# Altium footprint library R_4X1206.PcbLib: 1 footprints
Each footprint in its own frame and in the unit in brackets; x right, y up, seen from the top. Pads: shape width x height; smd on the part's side, far side on the other; paste and mask are expansions set on the pad; w line width, h text height; cw(c..) or ccw(c..) is an arc to the next point about the centre after c.
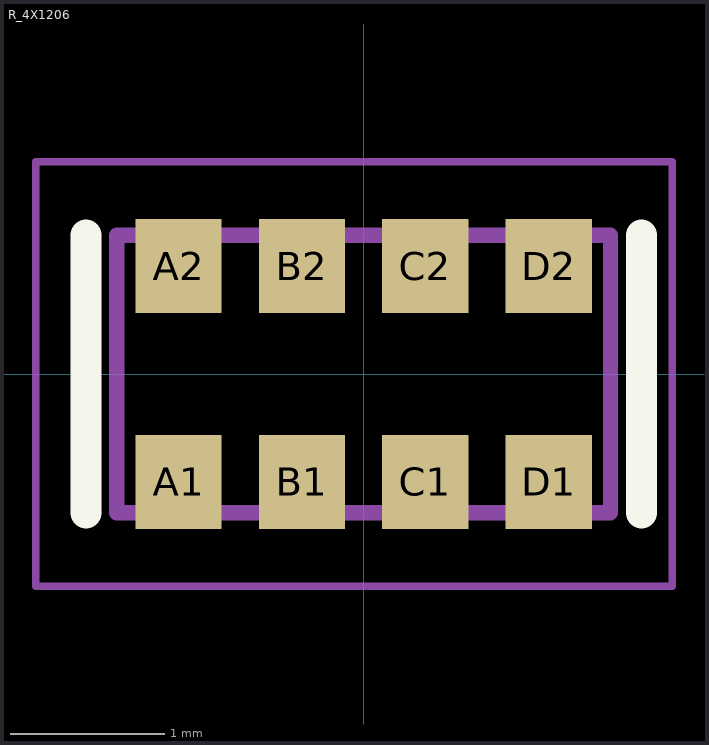
[diagram p0: the footprint, top view; thin cyan lines are the x and y axes]

## R_4X1206 [mm] "Resistor Array"
height 0.5
pads (8):
  rect 0.559x0.61 smd: A1(-1.2,-0.7) A2(-1.2,0.7) B1(-0.4,-0.7) B2(-0.4,0.7) C1(0.4,-0.7) C2(0.4,0.7) D1(1.2,-0.7) D2(1.2,0.7)
Top Overlay:
  lines w0.2: -1.8,-0.9 -1.8,0.9 ; 1.8,-0.9 1.8,0.9
Mechanical 13:
  lines w0.1: -1.6,-0.9 -1.6,0.9 1.6,0.9 1.6,-0.9 -1.6,-0.9
Mechanical 15:
  lines w0.05: -2.125,-1.375 2,-1.375 2,1.375 -2,1.375 -2.125,1.375 -2.125,-1.375
3D body: height 0.5, standoff 0, extent -1.65,-0.95 1.65,0.95